# Altium footprint library MELF Package.PcbLib: 1 footprints
Each footprint in its own frame and in the unit in brackets; x right, y up, seen from the top. Pads: shape width x height; smd on the part's side, far side on the other; paste and mask are expansions set on the pad; w line width, h text height; cw(c..) or ccw(c..) is an arc to the next point about the centre after c.
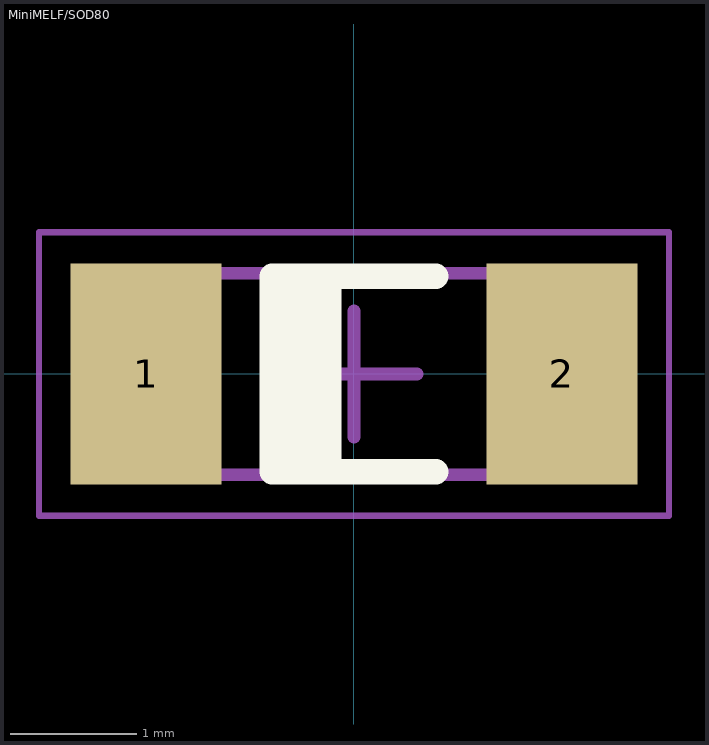
[diagram p0: the footprint, top view; thin cyan lines are the x and y axes]

## MiniMELF/SOD80 [mm]
height 1.6
pads (2):
  rect 1.2x1.75 smd: 1(-1.65,0) 2(1.65,0)
Top Overlay:
  rectangle: -0.65,-0.775 -0.1,0.775
  lines w0.2: 0.65,-0.775 -0.65,-0.775 -0.65,0.775 0.65,0.775
Mechanical 13:
  lines w0.1: -1.85,-0.8 1.85,-0.8 1.85,0.8 -1.85,0.8 -1.85,-0.8
Mechanical 15:
  lines w0.05: -2.5,-1.125 2.5,-1.125 2.5,1.125 -2.5,1.125 -2.5,-1.125
  lines w0.1: -0.5,0 0.5,0 ; 0,-0.5 0,0.5
3D body: height 1.6, standoff 0, extent 1.35,-0.8 1.85,0.8
3D body: height 1.59, standoff 0.04, extent -1.35,-0.77 1.35,0.77
3D body: height 1.59, standoff 0.04, extent -0.75,-0.771 -0.15,0.771
3D body: height 1.6, standoff 0, extent -1.85,-0.8 -1.35,0.8